# EAGLE library part LT1129-5 (library lt1129)
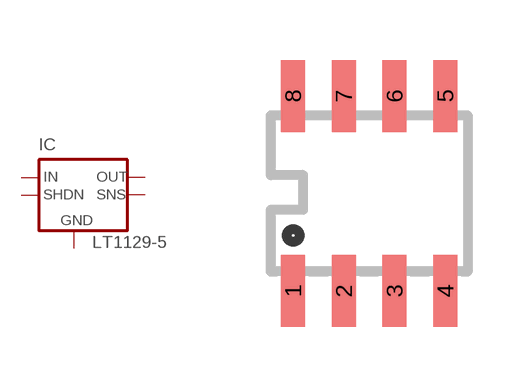
[diagram p0: symbol with the pads of SO8; footprint SO8]

Designator prefix IC

## LT1129-5SO8  [SO8]
1  OUT  out
2  SENSE  in
3  GND  pas
5  SHDN
6  GND1  pas
7  GND2  pas
8  IN  in

## Footprint SO8 (pad centres in mm)
smd 0.6 x 1.8: 1 -1.905,-2.44; 2 -0.635,-2.44; 3 0.635,-2.44; 4 1.905,-2.44; 5 1.905,2.44; 6 0.635,2.44; 7 -0.635,2.44; 8 -1.905,2.44